# EAGLE library part MIC_CMM-4030D-261-I2S-TR (library LinnesLab-Sensors)
MEMS MICROPHONE Check availability <https://pricing.snapeda.com/parts/CMM-4030D-261-I2S-TR/CUI%20Devices/view-part?ref=eda> https://www.snapeda.com/parts/CMM-4030D-261-I2S-TR/CUI%20Devices/view-part/?plugin=snap_extension
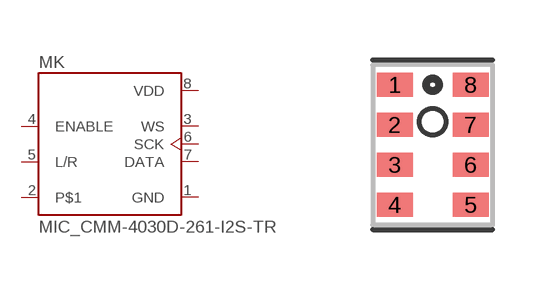
[diagram p33: symbol with the pads of MIC_CMM-4030D-261-I2S-TR; footprint MIC_CMM-4030D-261-I2S-TR]

Designator prefix MK

## MIC_CMM-4030D-261-I2S-TR (AVAILABILITY: In Stock; CUI_PURCHASE_URL: https://www.cuidevices.com/product/audio/microphones/mems-microphones/cmm-4030d-261-i2s-tr?utm_source=snapeda.com&utm_medium=referral&utm_campaign=snapedaBOM; DESCRIPTION: 4.0 x 3.0 mm, Omnidirectional, Top Port, Surface Mount, 2.6 Vdc, -26 ±1 dB, I²S, MEMS Microphone; MF: CUI Devices; MP: CMM-4030D-261-I2S-TR; PACKAGE: None; PRICE: None; PURCHASE-URL: https://pricing.snapeda.com/search/part/CMM-4030D-261-I2S-TR/?ref=eda)  [MIC_CMM-4030D-261-I2S-TR]
1  GND  pwr
2  P$1
3  WS  in
4  ENABLE  in
5  L/R  in
6  SCK  in
7  DATA  out
8  VDD  pwr

## Footprint MIC_CMM-4030D-261-I2S-TR (pad centres in mm)
smd 0.9 x 0.6: 1 -0.95,1.5; 2 -0.95,0.5; 3 -0.95,-0.5; 4 -0.95,-1.5; 5 0.95,-1.5; 6 0.95,-0.5; 7 0.95,0.5; 8 0.95,1.5